# EAGLE library part 750318587 (library WE-POE+)
WE-PoE+ Power over Ethernet Plus Transformer Characteristics Designed to meet 30 W PoE+ objectives of IEEE802.3at Frequency range: 250–400 kHz Input voltage range: 36–72 V 1.5 kV Hipot test between primary and secondary Operating temperature: –40 °C to +125 °C (incl. self-heating) Applications PoE+ powered devices IP Phones WLAN Access Points Security cameras <https://www.we-online.com/components/media/o14840v209%20Family_WE-POE%2B.jpg> Details see: www.we-online.com/en/components/products/WE-POE-PLUS <www.we-online.com/catalog/WE-POE-PLUS/?utm_source=eagle_model&utm_medium=description_link&utm_campaign=eisos_eagle> Created by Ella 2025-11-24 2025(C) Würth Elektronik
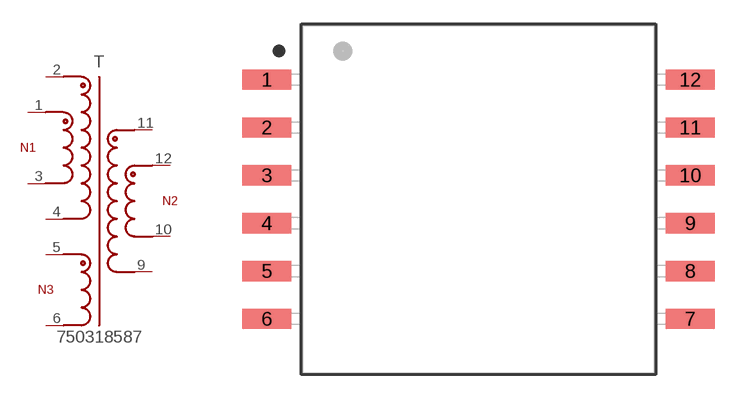
[diagram p1: symbol with the pads of WE-POE+_EFD20_L29.65W21.8H11.43; footprint WE-POE+_EFD20_L29.65W21.8H11.43]

Designator prefix T

## 750318587 (DATASHEET-URL: https://www.we-online.com/redexpert/spec/750318587?ae; IO1: 1A; L: 80uH; MOUNT: SMT; PART-NUMBER: 750318587; RDC1: 0.125ohm; RDC2: 0.1ohm; RDC3: 0.165ohm; SIZE: EFD20; TURNS-RATIO: 1:1:0.46; VALUE: 80uH; VAUX: 10.6V; VERSION: CCM Flyback; VIN: 17 - 57 V (DC); VO1: 24V; VT: 1500VAC)  [WE-POE+_EFD20_L29.65W21.8H11.43]
1  2  pas
2  1  pas
3  3  pas
4  4  pas
5  5  pas
6  6  pas
9  7  pas
10  8  pas
11  11  pas
12  12  pas

## Footprint WE-POE+_EFD20_L29.65W21.8H11.43 (pad centres in mm)
WE-PoE+ Power over Ethernet Plus Transformer Size: EFD20, SMT, 12Pins LXWXH=29.65X21.8X11.43mm
smd 3.05 x 1.27: 1 -13.26,7.5; 2 -13.26,4.5; 3 -13.26,1.5; 4 -13.26,-1.5; 5 -13.26,-4.5; 6 -13.26,-7.5; 7 13.26,-7.5; 8 13.26,-4.5; 9 13.26,-1.5; 10 13.26,1.5; 11 13.26,4.5; 12 13.26,7.5